# Altium integrated library con-thomas-betts.IntLib: 49 symbols (part 1 of 2)
Pins are listed as number, name and electrical type; pins without a type are passive.

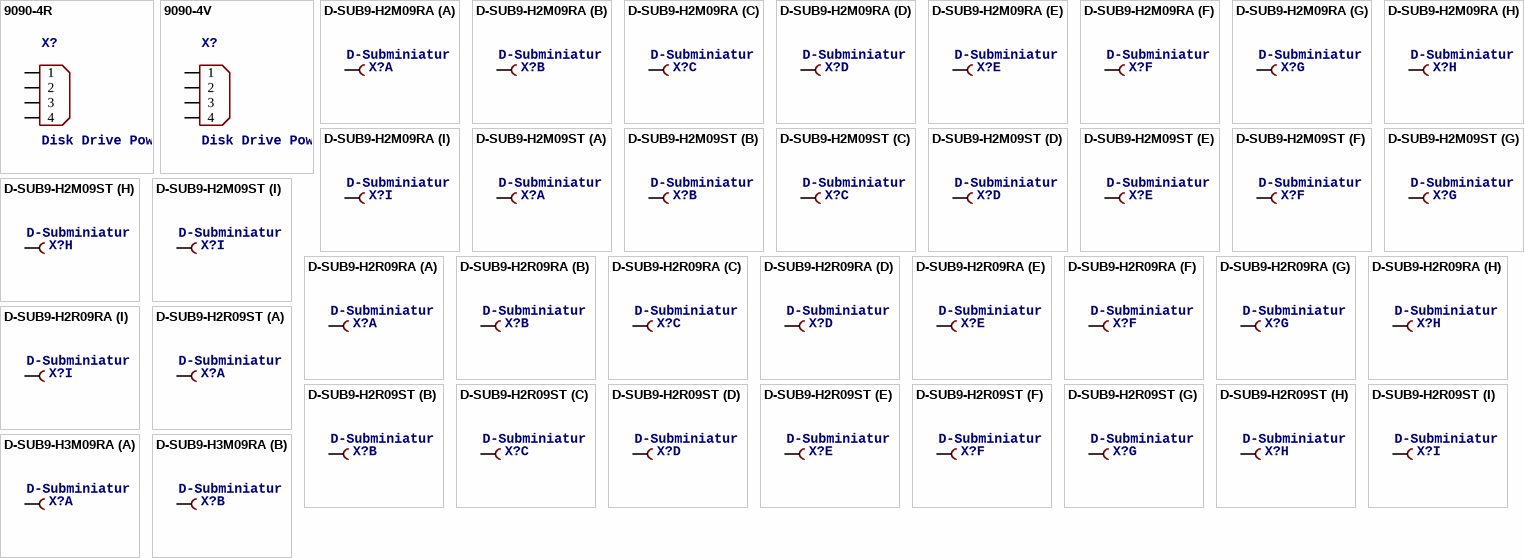
[diagram p0: symbols 9090-4R to D-SUB9-H3M09RA]

## 9090-4R
designator X?, comment Disk Drive Power four position   Source: Thomas & Betts Electronic Interconnects Eiropean Edition 1998
OC_FARNELL: unknown; OC_NEWARK: unknown
footprint 9090-4R
pins: 1, 2, 3, 4

## 9090-4V
designator X?, comment Disk Drive Power four position   Source: Thomas & Betts Electronic Interconnects Eiropean Edition 1998
OC_FARNELL: unknown; OC_NEWARK: unknown
footprint 9090-4V
pins: 1, 2, 3, 4

## D-SUB9-H2M09RA
designator X?, comment D-Subminiatur Connector   Source: Electronioc Interconnects European Edition 1998
OC_FARNELL: unknown; OC_NEWARK: unknown
footprint H2M09RA
part A pins: 1 F
part B pins: 2 F
part C pins: 3 F
part D pins: 4 F
part E pins: 5 F
part F pins: 6 F
part G pins: 7 F
part H pins: 8 F
part I pins: 9 F

## D-SUB9-H2M09ST
designator X?, comment D-Subminiatur Connector   Source: Electronioc Interconnects European Edition 1998
OC_FARNELL: unknown; OC_NEWARK: unknown
footprint H2M09ST
part A pins: 1 F
part B pins: 2 F
part C pins: 3 F
part D pins: 4 F
part E pins: 5 F
part F pins: 6 F
part G pins: 7 F
part H pins: 8 F
part I pins: 9 F

## D-SUB9-H2R09RA
designator X?, comment D-Subminiatur Connector   Source: Electronioc Interconnects European Edition 1998
OC_FARNELL: unknown; OC_NEWARK: unknown
footprint H2R09RA
part A pins: 1 F
part B pins: 2 F
part C pins: 3 F
part D pins: 4 F
part E pins: 5 F
part F pins: 6 F
part G pins: 7 F
part H pins: 8 F
part I pins: 9 F

## D-SUB9-H2R09ST
designator X?, comment D-Subminiatur Connector   Source: Electronioc Interconnects European Edition 1998
OC_FARNELL: unknown; OC_NEWARK: unknown
footprint H2R09ST
part A pins: 1 F
part B pins: 2 F
part C pins: 3 F
part D pins: 4 F
part E pins: 5 F
part F pins: 6 F
part G pins: 7 F
part H pins: 8 F
part I pins: 9 F

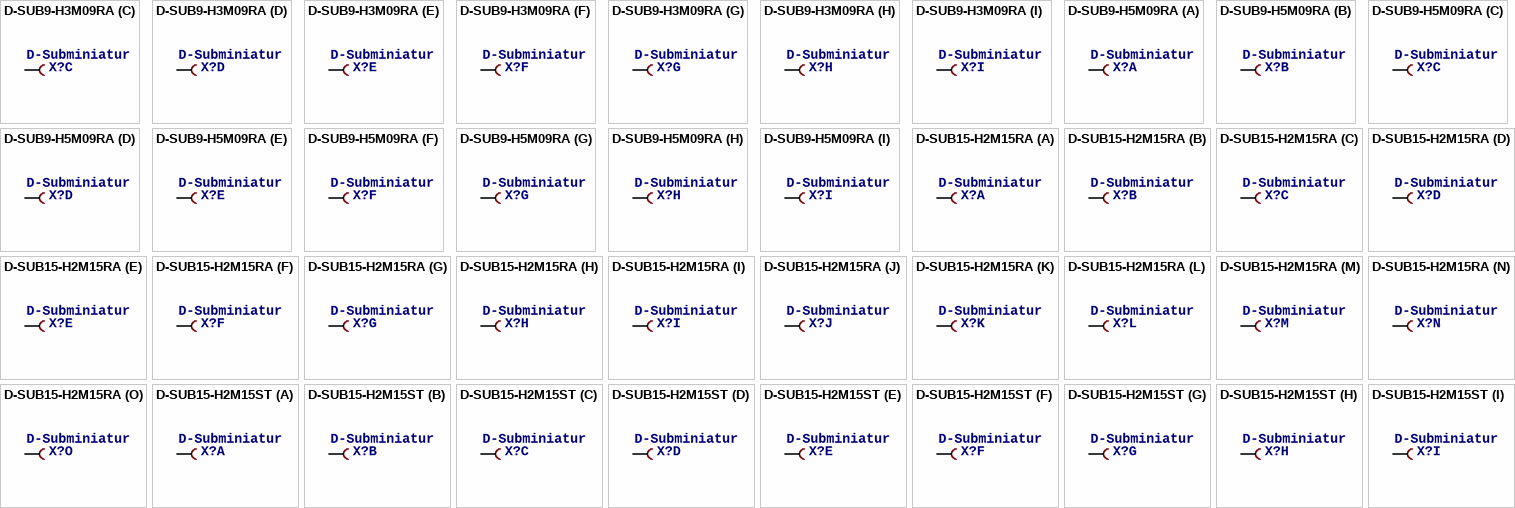
[diagram p1: symbols D-SUB9-H3M09RA to D-SUB15-H2M15ST]

## D-SUB9-H3M09RA
designator X?, comment D-Subminiatur Connector   Source: Electronioc Interconnects European Edition 1998
OC_FARNELL: unknown; OC_NEWARK: unknown
footprint H3M09RA
part A pins: 1 F
part B pins: 2 F
part C pins: 3 F
part D pins: 4 F
part E pins: 5 F
part F pins: 6 F
part G pins: 7 F
part H pins: 8 F
part I pins: 9 F

## D-SUB9-H5M09RA
designator X?, comment D-Subminiatur Connector   Source: Electronioc Interconnects European Edition 1998
OC_FARNELL: unknown; OC_NEWARK: unknown
footprint H5M09RA
part A pins: 1 F
part B pins: 2 F
part C pins: 3 F
part D pins: 4 F
part E pins: 5 F
part F pins: 6 F
part G pins: 7 F
part H pins: 8 F
part I pins: 9 F

## D-SUB15-H2M15RA
designator X?, comment D-Subminiatur Connector   Source: Electronioc Interconnects European Edition 1998
MPN: H2M15RA29B; OC_FARNELL: unknown; OC_NEWARK: 93F8395
footprint H2M15RA
part A pins: 1 F
part B pins: 2 F
part C pins: 3 F
part D pins: 4 F
part E pins: 5 F
part F pins: 6 F
part G pins: 7 F
part H pins: 8 F
part I pins: 9 F
part J pins: 10 F
part K pins: 11 F
part L pins: 12 F
part M pins: 13 F
part N pins: 14 F
part O pins: 15 F

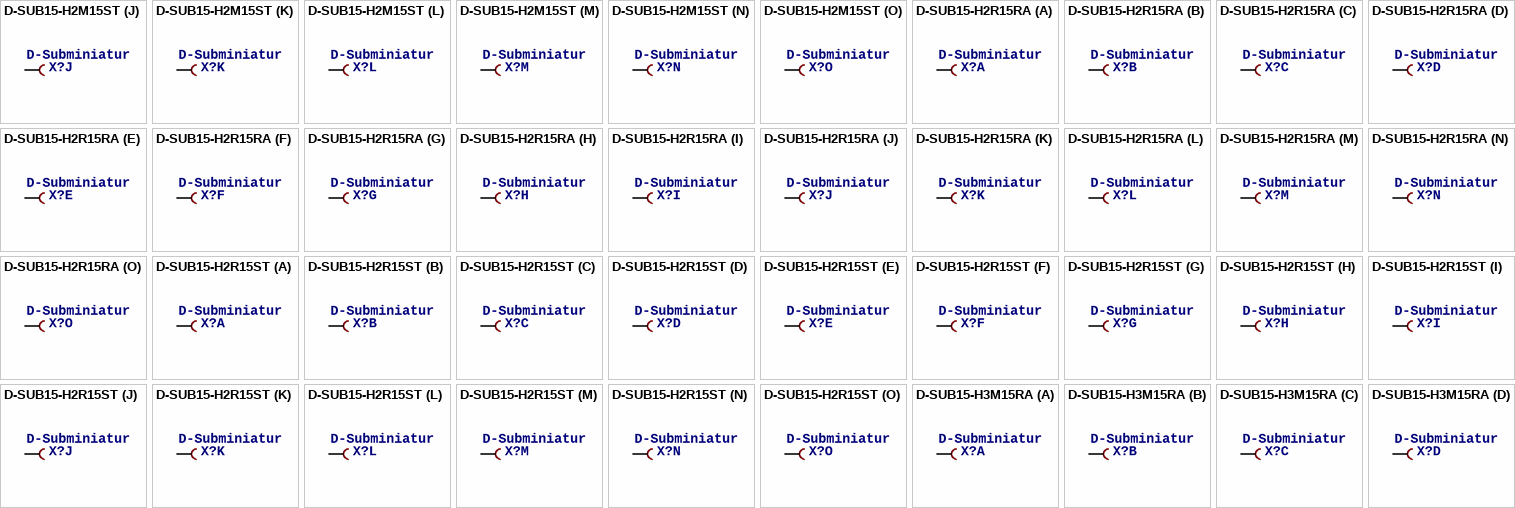
[diagram p2: symbols D-SUB15-H2M15ST to D-SUB15-H3M15RA]

## D-SUB15-H2M15ST
designator X?, comment D-Subminiatur Connector   Source: Electronioc Interconnects European Edition 1998
OC_FARNELL: unknown; OC_NEWARK: unknown
footprint H2M15ST
part A pins: 1 F
part B pins: 2 F
part C pins: 3 F
part D pins: 4 F
part E pins: 5 F
part F pins: 6 F
part G pins: 7 F
part H pins: 8 F
part I pins: 9 F
part J pins: 10 F
part K pins: 11 F
part L pins: 12 F
part M pins: 13 F
part N pins: 14 F
part O pins: 15 F

## D-SUB15-H2R15RA
designator X?, comment D-Subminiatur Connector   Source: Electronioc Interconnects European Edition 1998
OC_FARNELL: unknown; OC_NEWARK: unknown
footprint H2R15RA
part A pins: 1 F
part B pins: 2 F
part C pins: 3 F
part D pins: 4 F
part E pins: 5 F
part F pins: 6 F
part G pins: 7 F
part H pins: 8 F
part I pins: 9 F
part J pins: 10 F
part K pins: 11 F
part L pins: 12 F
part M pins: 13 F
part N pins: 14 F
part O pins: 15 F

## D-SUB15-H2R15ST
designator X?, comment D-Subminiatur Connector   Source: Electronioc Interconnects European Edition 1998
OC_FARNELL: unknown; OC_NEWARK: unknown
footprint H2R15ST
part A pins: 1 F
part B pins: 2 F
part C pins: 3 F
part D pins: 4 F
part E pins: 5 F
part F pins: 6 F
part G pins: 7 F
part H pins: 8 F
part I pins: 9 F
part J pins: 10 F
part K pins: 11 F
part L pins: 12 F
part M pins: 13 F
part N pins: 14 F
part O pins: 15 F

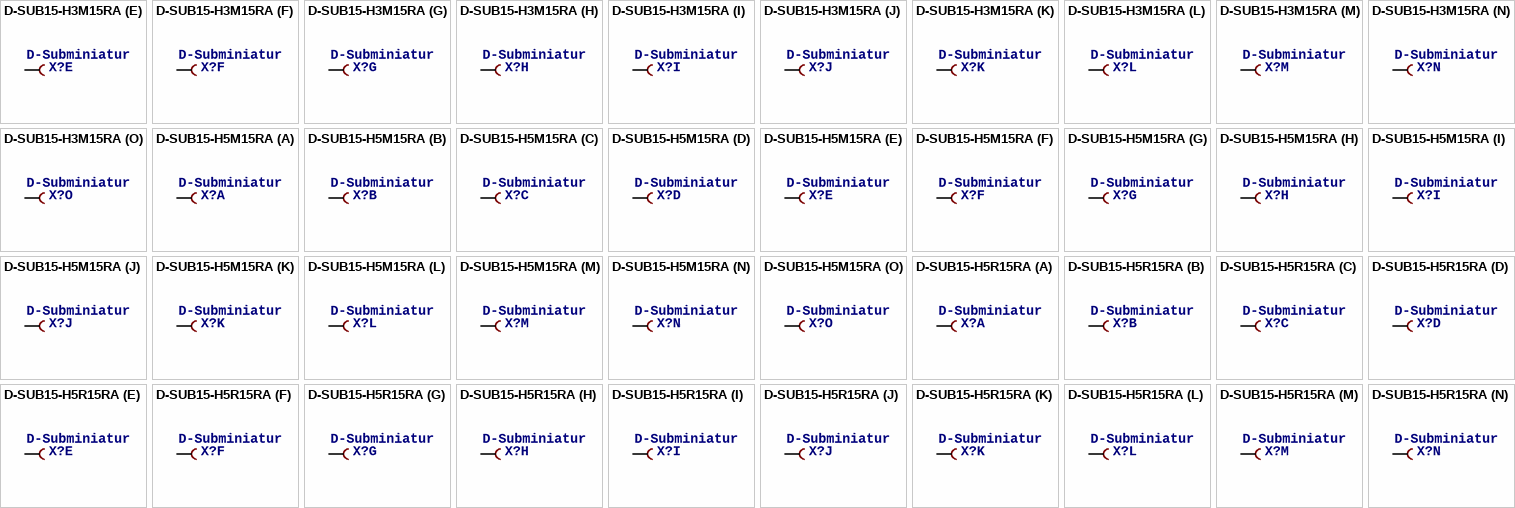
[diagram p3: symbols D-SUB15-H3M15RA to D-SUB15-H5R15RA]

## D-SUB15-H3M15RA
designator X?, comment D-Subminiatur Connector   Source: Electronioc Interconnects European Edition 1998
OC_FARNELL: unknown; OC_NEWARK: unknown
footprint H3M15RA
part A pins: 1 F
part B pins: 2 F
part C pins: 3 F
part D pins: 4 F
part E pins: 5 F
part F pins: 6 F
part G pins: 7 F
part H pins: 8 F
part I pins: 9 F
part J pins: 10 F
part K pins: 11 F
part L pins: 12 F
part M pins: 13 F
part N pins: 14 F
part O pins: 15 F

## D-SUB15-H5M15RA
designator X?, comment D-Subminiatur Connector   Source: Electronioc Interconnects European Edition 1998
MPN: H5M15RA29C; MF: TYCO ELECTRONICS; OC_FARNELL: unknown; OC_NEWARK: 93F8315
footprint H5M15RA
part A pins: 1 F
part B pins: 2 F
part C pins: 3 F
part D pins: 4 F
part E pins: 5 F
part F pins: 6 F
part G pins: 7 F
part H pins: 8 F
part I pins: 9 F
part J pins: 10 F
part K pins: 11 F
part L pins: 12 F
part M pins: 13 F
part N pins: 14 F
part O pins: 15 F

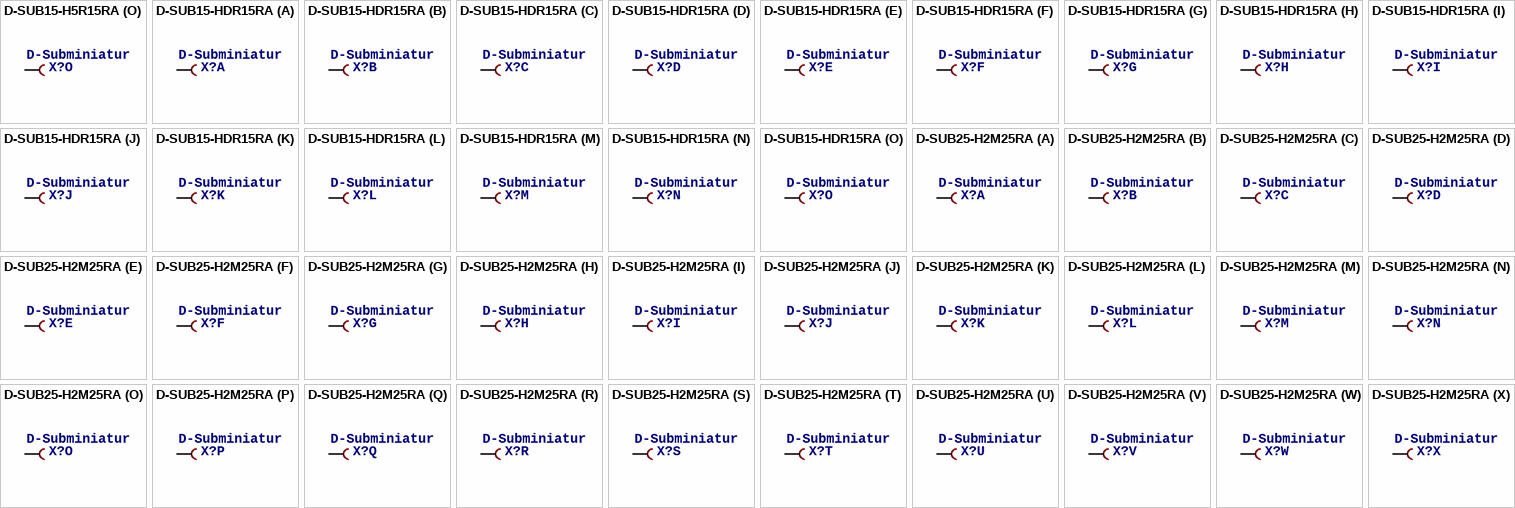
[diagram p4: symbols D-SUB15-H5R15RA to D-SUB25-H2M25RA]

## D-SUB15-H5R15RA
designator X?, comment D-Subminiatur Connector   Source: Electronioc Interconnects European Edition 1998
MPN: H5R15RA29B; MF: TYCO ELECTRONICS; OC_FARNELL: unknown; OC_NEWARK: 93F8335
footprint H5R15RA
part A pins: 1 F
part B pins: 2 F
part C pins: 3 F
part D pins: 4 F
part E pins: 5 F
part F pins: 6 F
part G pins: 7 F
part H pins: 8 F
part I pins: 9 F
part J pins: 10 F
part K pins: 11 F
part L pins: 12 F
part M pins: 13 F
part N pins: 14 F
part O pins: 15 F

## D-SUB15-HDR15RA
designator X?, comment D-Subminiatur Connector   Source: Electronioc Interconnects European Edition 1998
OC_FARNELL: unknown; OC_NEWARK: unknown
footprint HDR15RA
part A pins: 1 F
part B pins: 2 F
part C pins: 3 F
part D pins: 4 F
part E pins: 5 F
part F pins: 6 F
part G pins: 7 F
part H pins: 8 F
part I pins: 9 F
part J pins: 10 F
part K pins: 11 F
part L pins: 12 F
part M pins: 13 F
part N pins: 14 F
part O pins: 15 F

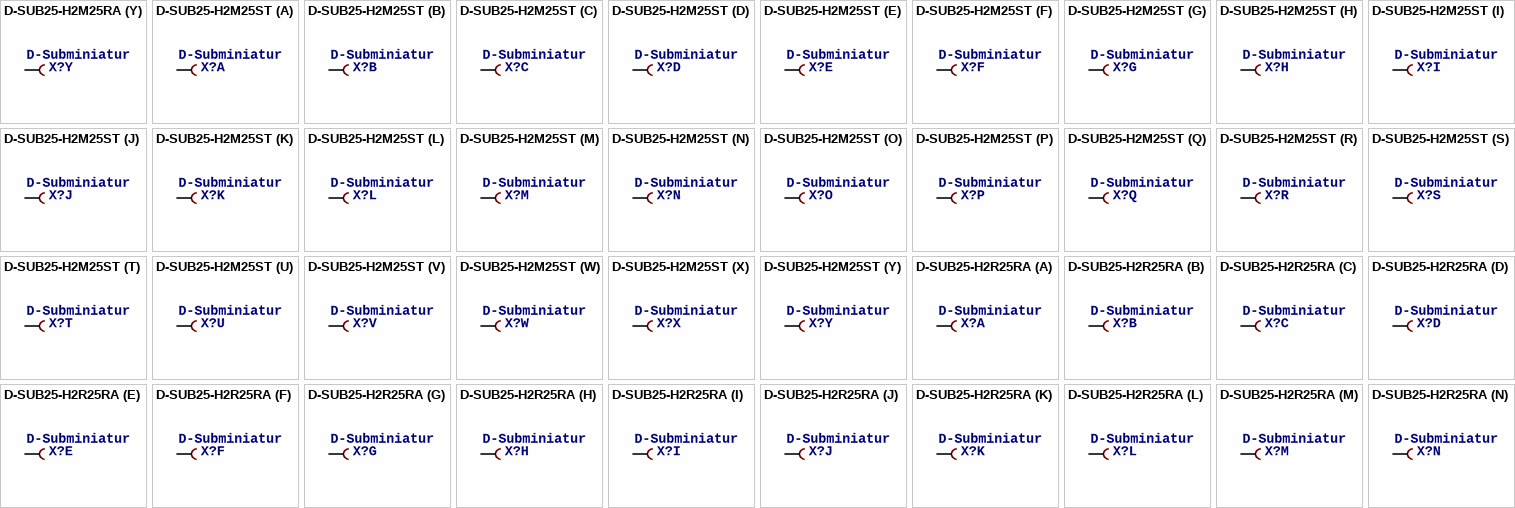
[diagram p5: symbols D-SUB25-H2M25RA to D-SUB25-H2R25RA]

## D-SUB25-H2M25RA
designator X?, comment D-Subminiatur Connector   Source: Electronioc Interconnects European Edition 1998
OC_FARNELL: unknown; OC_NEWARK: unknown
footprint H2M25RA
part A pins: 1 F
part B pins: 2 F
part C pins: 3 F
part D pins: 4 F
part E pins: 5 F
part F pins: 6 F
part G pins: 7 F
part H pins: 8 F
part I pins: 9 F
part J pins: 10 F
part K pins: 11 F
part L pins: 12 F
part M pins: 13 F
part N pins: 14 F
part O pins: 15 F
part P pins: 16 F
part Q pins: 17 F
part R pins: 18 F
part S pins: 19 F
part T pins: 20 F
part U pins: 21 F
part V pins: 22 F
part W pins: 23 F
part X pins: 24 F
part Y pins: 25 F

## D-SUB25-H2M25ST
designator X?, comment D-Subminiatur Connector   Source: Electronioc Interconnects European Edition 1998
OC_FARNELL: unknown; OC_NEWARK: unknown
footprint H2M25ST
part A pins: 1 F
part B pins: 2 F
part C pins: 3 F
part D pins: 4 F
part E pins: 5 F
part F pins: 6 F
part G pins: 7 F
part H pins: 8 F
part I pins: 9 F
part J pins: 10 F
part K pins: 11 F
part L pins: 12 F
part M pins: 13 F
part N pins: 14 F
part O pins: 15 F
part P pins: 16 F
part Q pins: 17 F
part R pins: 18 F
part S pins: 19 F
part T pins: 20 F
part U pins: 21 F
part V pins: 22 F
part W pins: 23 F
part X pins: 24 F
part Y pins: 25 F

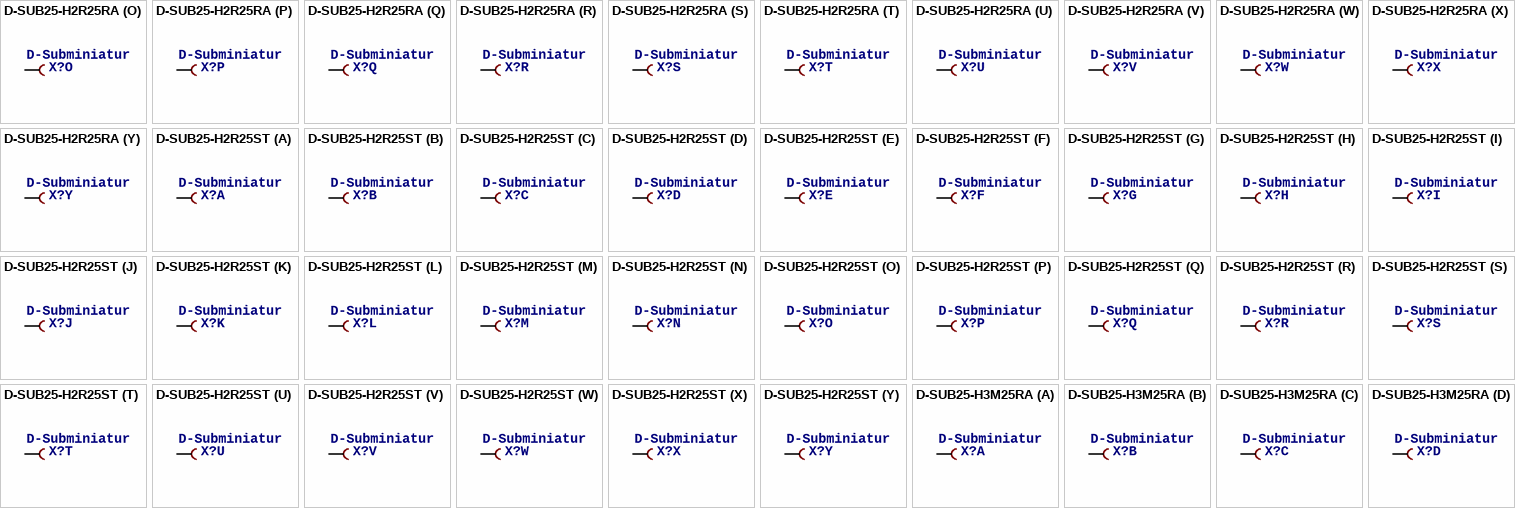
[diagram p6: symbols D-SUB25-H2R25RA to D-SUB25-H3M25RA]

## D-SUB25-H2R25RA
designator X?, comment D-Subminiatur Connector   Source: Electronioc Interconnects European Edition 1998
OC_FARNELL: unknown; OC_NEWARK: unknown
footprint H2R25RA
part A pins: 1 F
part B pins: 2 F
part C pins: 3 F
part D pins: 4 F
part E pins: 5 F
part F pins: 6 F
part G pins: 7 F
part H pins: 8 F
part I pins: 9 F
part J pins: 10 F
part K pins: 11 F
part L pins: 12 F
part M pins: 13 F
part N pins: 14 F
part O pins: 15 F
part P pins: 16 F
part Q pins: 17 F
part R pins: 18 F
part S pins: 19 F
part T pins: 20 F
part U pins: 21 F
part V pins: 22 F
part W pins: 23 F
part X pins: 24 F
part Y pins: 25 F

## D-SUB25-H2R25ST
designator X?, comment D-Subminiatur Connector   Source: Electronioc Interconnects European Edition 1998
MPN: H2R25ST29J; MF: TYCO ELECTRONICS; OC_FARNELL: unknown; OC_NEWARK: 16F4224
footprint H2R25ST
part A pins: 1 F
part B pins: 2 F
part C pins: 3 F
part D pins: 4 F
part E pins: 5 F
part F pins: 6 F
part G pins: 7 F
part H pins: 8 F
part I pins: 9 F
part J pins: 10 F
part K pins: 11 F
part L pins: 12 F
part M pins: 13 F
part N pins: 14 F
part O pins: 15 F
part P pins: 16 F
part Q pins: 17 F
part R pins: 18 F
part S pins: 19 F
part T pins: 20 F
part U pins: 21 F
part V pins: 22 F
part W pins: 23 F
part X pins: 24 F
part Y pins: 25 F

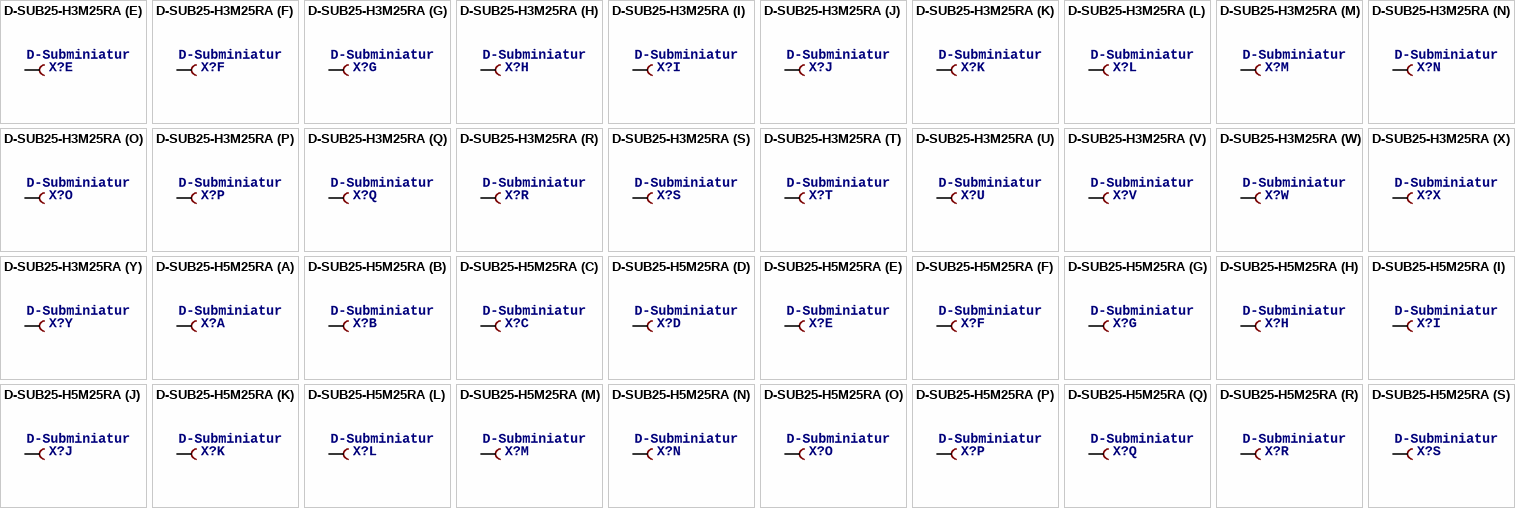
[diagram p7: symbols D-SUB25-H3M25RA to D-SUB25-H5M25RA]

## D-SUB25-H3M25RA
designator X?, comment D-Subminiatur Connector   Source: Electronioc Interconnects European Edition 1998
OC_FARNELL: unknown; OC_NEWARK: unknown
footprint H3M25RA
part A pins: 1 F
part B pins: 2 F
part C pins: 3 F
part D pins: 4 F
part E pins: 5 F
part F pins: 6 F
part G pins: 7 F
part H pins: 8 F
part I pins: 9 F
part J pins: 10 F
part K pins: 11 F
part L pins: 12 F
part M pins: 13 F
part N pins: 14 F
part O pins: 15 F
part P pins: 16 F
part Q pins: 17 F
part R pins: 18 F
part S pins: 19 F
part T pins: 20 F
part U pins: 21 F
part V pins: 22 F
part W pins: 23 F
part X pins: 24 F
part Y pins: 25 F

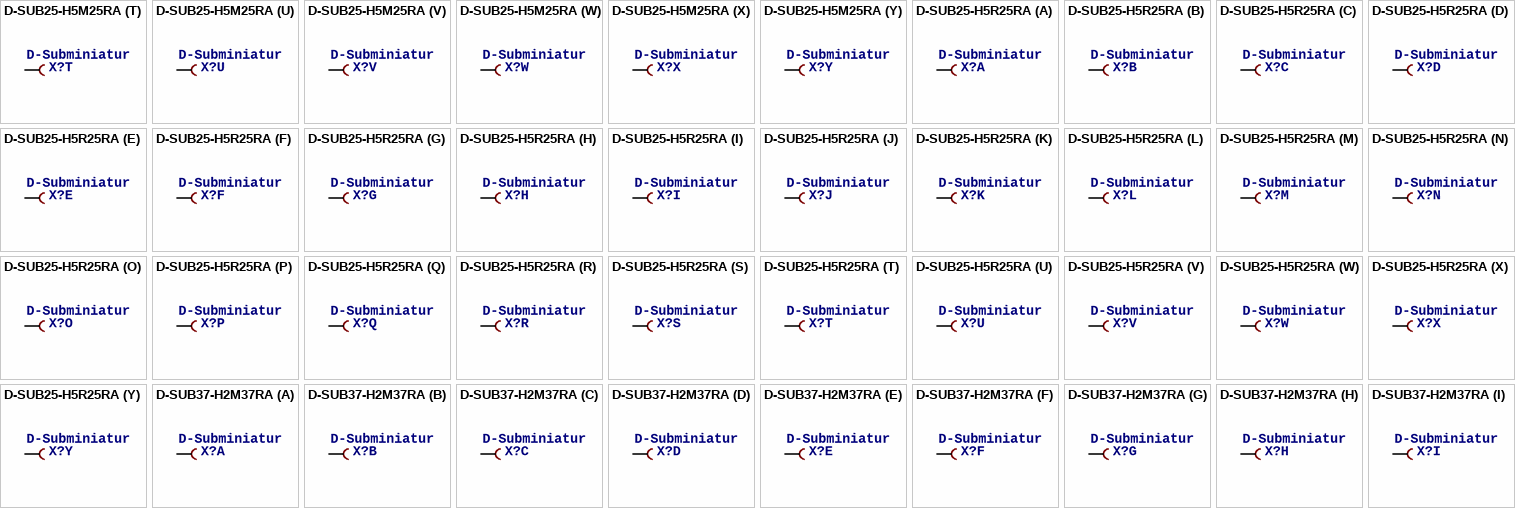
[diagram p8: symbols D-SUB25-H5M25RA to D-SUB37-H2M37RA]

## D-SUB25-H5M25RA
designator X?, comment D-Subminiatur Connector   Source: Electronioc Interconnects European Edition 1998
MPN: H5M25RA29CS; OC_FARNELL: unknown; OC_NEWARK: 93F8324
footprint H5M25RA
part A pins: 1 F
part B pins: 2 F
part C pins: 3 F
part D pins: 4 F
part E pins: 5 F
part F pins: 6 F
part G pins: 7 F
part H pins: 8 F
part I pins: 9 F
part J pins: 10 F
part K pins: 11 F
part L pins: 12 F
part M pins: 13 F
part N pins: 14 F
part O pins: 15 F
part P pins: 16 F
part Q pins: 17 F
part R pins: 18 F
part S pins: 19 F
part T pins: 20 F
part U pins: 21 F
part V pins: 22 F
part W pins: 23 F
part X pins: 24 F
part Y pins: 25 F

## D-SUB25-H5R25RA
designator X?, comment D-Subminiatur Connector   Source: Electronioc Interconnects European Edition 1998
MPN: H5R25RA29CS; OC_FARNELL: unknown; OC_NEWARK: 93F8340
footprint H5R25RA
part A pins: 1 F
part B pins: 2 F
part C pins: 3 F
part D pins: 4 F
part E pins: 5 F
part F pins: 6 F
part G pins: 7 F
part H pins: 8 F
part I pins: 9 F
part J pins: 10 F
part K pins: 11 F
part L pins: 12 F
part M pins: 13 F
part N pins: 14 F
part O pins: 15 F
part P pins: 16 F
part Q pins: 17 F
part R pins: 18 F
part S pins: 19 F
part T pins: 20 F
part U pins: 21 F
part V pins: 22 F
part W pins: 23 F
part X pins: 24 F
part Y pins: 25 F

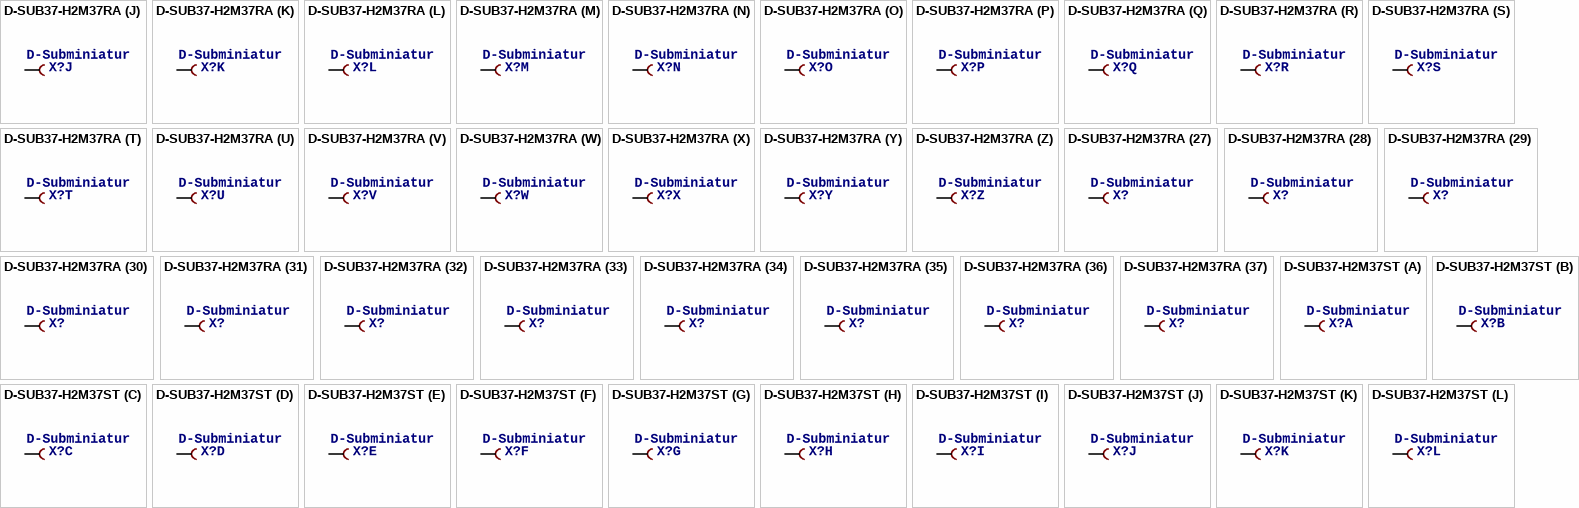
[diagram p9: symbols D-SUB37-H2M37RA to D-SUB37-H2M37ST]

## D-SUB37-H2M37RA
designator X?, comment D-Subminiatur Connector   Source: Electronioc Interconnects European Edition 1998
OC_FARNELL: unknown; OC_NEWARK: unknown
footprint H2M37RA
part A pins: 1 F
part B pins: 2 F
part C pins: 3 F
part D pins: 4 F
part E pins: 5 F
part F pins: 6 F
part G pins: 7 F
part H pins: 8 F
part I pins: 9 F
part J pins: 10 F
part K pins: 11 F
part L pins: 12 F
part M pins: 13 F
part N pins: 14 F
part O pins: 15 F
part P pins: 16 F
part Q pins: 17 F
part R pins: 18 F
part S pins: 19 F
part T pins: 20 F
part U pins: 21 F
part V pins: 22 F
part W pins: 23 F
part X pins: 24 F
part Y pins: 25 F
part Z pins: 26 F
part 27 pins: 27 F
part 28 pins: 28 F
part 29 pins: 29 F
part 30 pins: 30 F
part 31 pins: 31 F
part 32 pins: 32 F
part 33 pins: 33 F
part 34 pins: 34 F
part 35 pins: 35 F
part 36 pins: 36 F
part 37 pins: 37 F

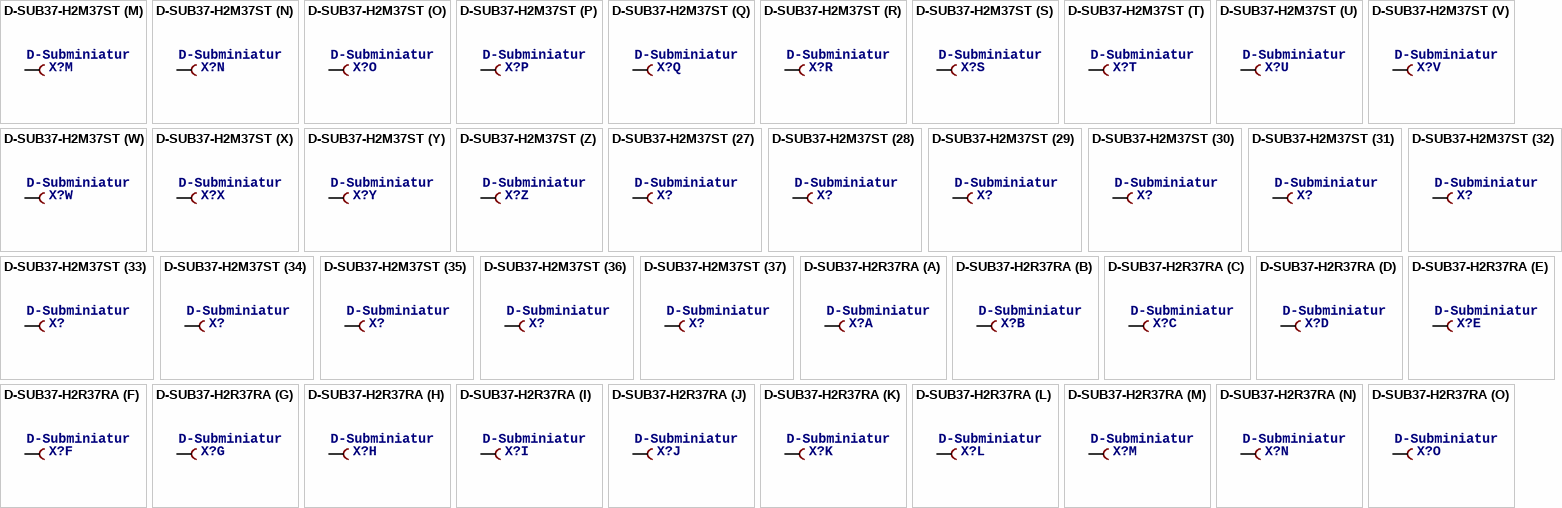
[diagram p10: symbols D-SUB37-H2M37ST to D-SUB37-H2R37RA]

## D-SUB37-H2M37ST
designator X?, comment D-Subminiatur Connector   Source: Electronioc Interconnects European Edition 1998
OC_FARNELL: unknown; OC_NEWARK: unknown
footprint H2M37ST
part A pins: 1 F
part B pins: 2 F
part C pins: 3 F
part D pins: 4 F
part E pins: 5 F
part F pins: 6 F
part G pins: 7 F
part H pins: 8 F
part I pins: 9 F
part J pins: 10 F
part K pins: 11 F
part L pins: 12 F
part M pins: 13 F
part N pins: 14 F
part O pins: 15 F
part P pins: 16 F
part Q pins: 17 F
part R pins: 18 F
part S pins: 19 F
part T pins: 20 F
part U pins: 21 F
part V pins: 22 F
part W pins: 23 F
part X pins: 24 F
part Y pins: 25 F
part Z pins: 26 F
part 27 pins: 27 F
part 28 pins: 28 F
part 29 pins: 29 F
part 30 pins: 30 F
part 31 pins: 31 F
part 32 pins: 32 F
part 33 pins: 33 F
part 34 pins: 34 F
part 35 pins: 35 F
part 36 pins: 36 F
part 37 pins: 37 F

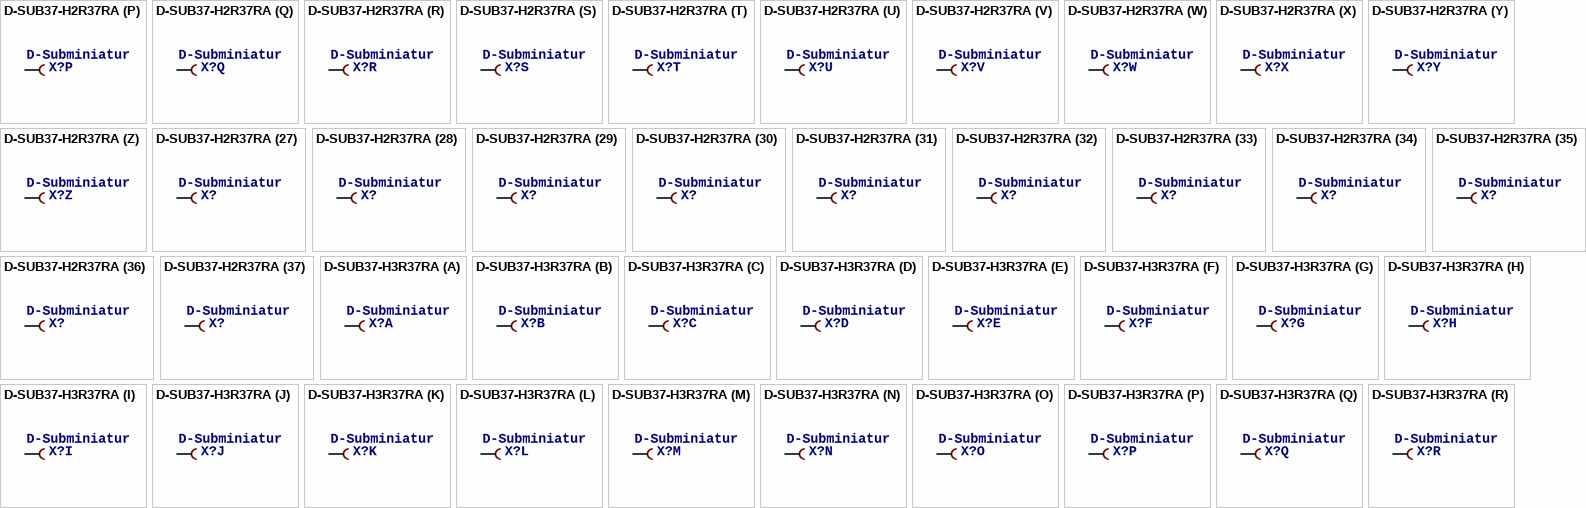
[diagram p11: symbols D-SUB37-H2R37RA to D-SUB37-H3R37RA]

## D-SUB37-H2R37RA
designator X?, comment D-Subminiatur Connector   Source: Electronioc Interconnects European Edition 1998
OC_FARNELL: unknown; OC_NEWARK: unknown
footprint H2R37RA
part A pins: 1 F
part B pins: 2 F
part C pins: 3 F
part D pins: 4 F
part E pins: 5 F
part F pins: 6 F
part G pins: 7 F
part H pins: 8 F
part I pins: 9 F
part J pins: 10 F
part K pins: 11 F
part L pins: 12 F
part M pins: 13 F
part N pins: 14 F
part O pins: 15 F
part P pins: 16 F
part Q pins: 17 F
part R pins: 18 F
part S pins: 19 F
part T pins: 20 F
part U pins: 21 F
part V pins: 22 F
part W pins: 23 F
part X pins: 24 F
part Y pins: 25 F
part Z pins: 26 F
part 27 pins: 27 F
part 28 pins: 28 F
part 29 pins: 29 F
part 30 pins: 30 F
part 31 pins: 31 F
part 32 pins: 32 F
part 33 pins: 33 F
part 34 pins: 34 F
part 35 pins: 35 F
part 36 pins: 36 F
part 37 pins: 37 F

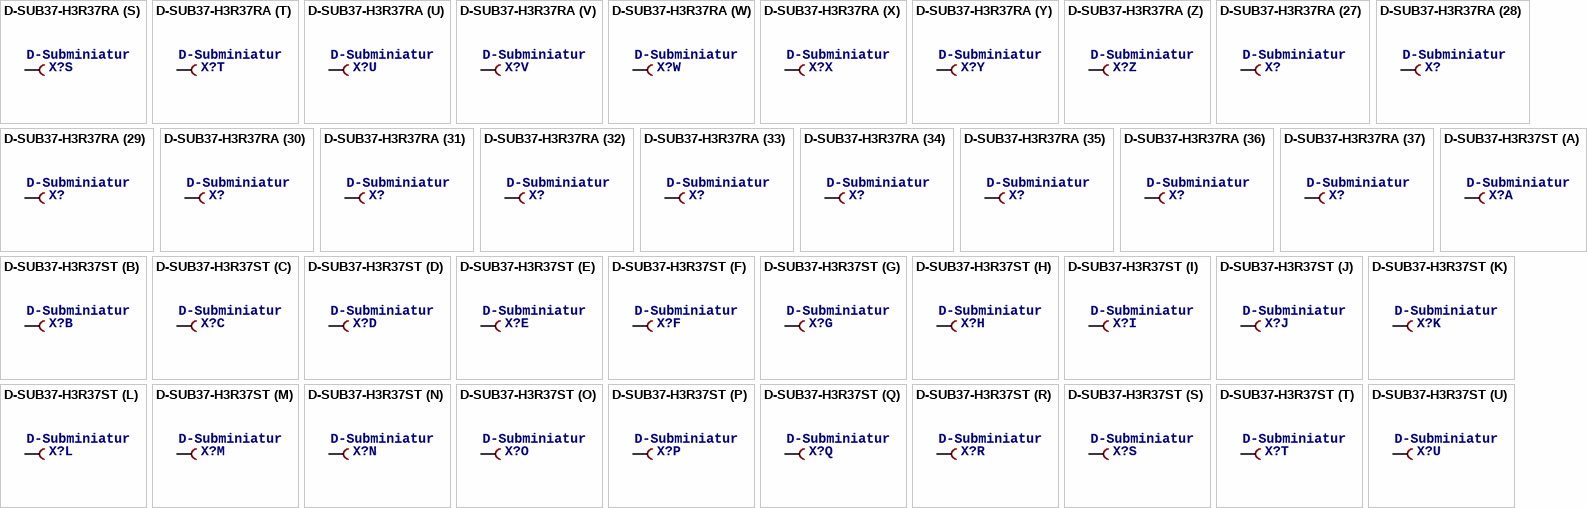
[diagram p12: symbols D-SUB37-H3R37RA to D-SUB37-H3R37ST]

## D-SUB37-H3R37RA
designator X?, comment D-Subminiatur Connector   Source: Electronioc Interconnects European Edition 1998
OC_FARNELL: unknown; OC_NEWARK: unknown
footprint H3R37RA
part A pins: 1 F
part B pins: 2 F
part C pins: 3 F
part D pins: 4 F
part E pins: 5 F
part F pins: 6 F
part G pins: 7 F
part H pins: 8 F
part I pins: 9 F
part J pins: 10 F
part K pins: 11 F
part L pins: 12 F
part M pins: 13 F
part N pins: 14 F
part O pins: 15 F
part P pins: 16 F
part Q pins: 17 F
part R pins: 18 F
part S pins: 19 F
part T pins: 20 F
part U pins: 21 F
part V pins: 22 F
part W pins: 23 F
part X pins: 24 F
part Y pins: 25 F
part Z pins: 26 F
part 27 pins: 27 F
part 28 pins: 28 F
part 29 pins: 29 F
part 30 pins: 30 F
part 31 pins: 31 F
part 32 pins: 32 F
part 33 pins: 33 F
part 34 pins: 34 F
part 35 pins: 35 F
part 36 pins: 36 F
part 37 pins: 37 F

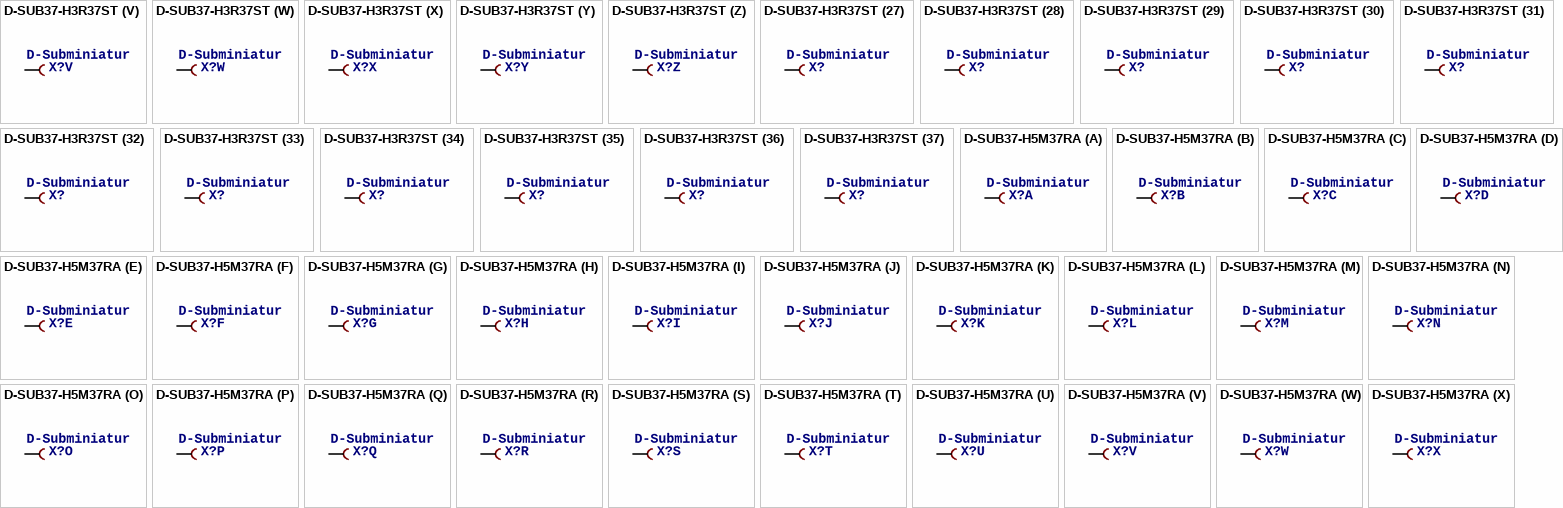
[diagram p13: symbols D-SUB37-H3R37ST to D-SUB37-H5M37RA]

## D-SUB37-H3R37ST
designator X?, comment D-Subminiatur Connector   Source: Electronioc Interconnects European Edition 1998
OC_FARNELL: unknown; OC_NEWARK: unknown
footprint H2R37ST
part A pins: 1 F
part B pins: 2 F
part C pins: 3 F
part D pins: 4 F
part E pins: 5 F
part F pins: 6 F
part G pins: 7 F
part H pins: 8 F
part I pins: 9 F
part J pins: 10 F
part K pins: 11 F
part L pins: 12 F
part M pins: 13 F
part N pins: 14 F
part O pins: 15 F
part P pins: 16 F
part Q pins: 17 F
part R pins: 18 F
part S pins: 19 F
part T pins: 20 F
part U pins: 21 F
part V pins: 22 F
part W pins: 23 F
part X pins: 24 F
part Y pins: 25 F
part Z pins: 26 F
part 27 pins: 27 F
part 28 pins: 28 F
part 29 pins: 29 F
part 30 pins: 30 F
part 31 pins: 31 F
part 32 pins: 32 F
part 33 pins: 33 F
part 34 pins: 34 F
part 35 pins: 35 F
part 36 pins: 36 F
part 37 pins: 37 F

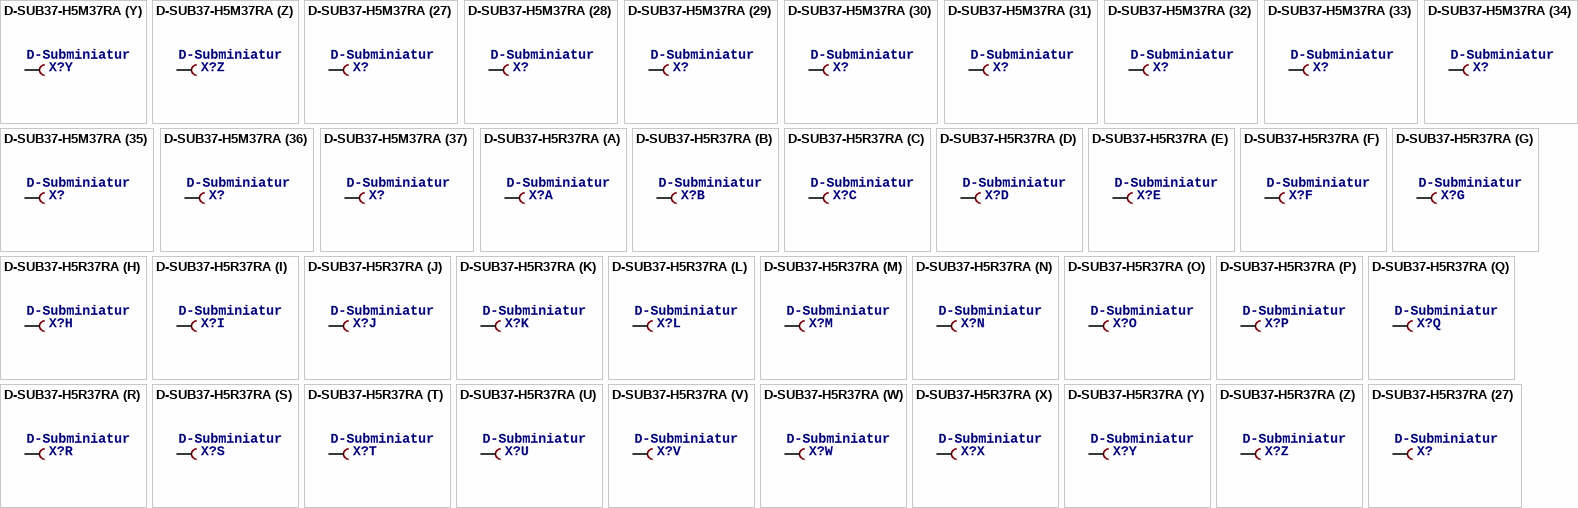
[diagram p14: symbols D-SUB37-H5M37RA to D-SUB37-H5R37RA]

## D-SUB37-H5M37RA
designator X?, comment D-Subminiatur Connector   Source: Electronioc Interconnects European Edition 1998
MPN: H5M37RA29CS; OC_FARNELL: unknown; OC_NEWARK: 93F8325
footprint H5M37RA
part A pins: 1 F
part B pins: 2 F
part C pins: 3 F
part D pins: 4 F
part E pins: 5 F
part F pins: 6 F
part G pins: 7 F
part H pins: 8 F
part I pins: 9 F
part J pins: 10 F
part K pins: 11 F
part L pins: 12 F
part M pins: 13 F
part N pins: 14 F
part O pins: 15 F
part P pins: 16 F
part Q pins: 17 F
part R pins: 18 F
part S pins: 19 F
part T pins: 20 F
part U pins: 21 F
part V pins: 22 F
part W pins: 23 F
part X pins: 24 F
part Y pins: 25 F
part Z pins: 26 F
part 27 pins: 27 F
part 28 pins: 28 F
part 29 pins: 29 F
part 30 pins: 30 F
part 31 pins: 31 F
part 32 pins: 32 F
part 33 pins: 33 F
part 34 pins: 34 F
part 35 pins: 35 F
part 36 pins: 36 F
part 37 pins: 37 F

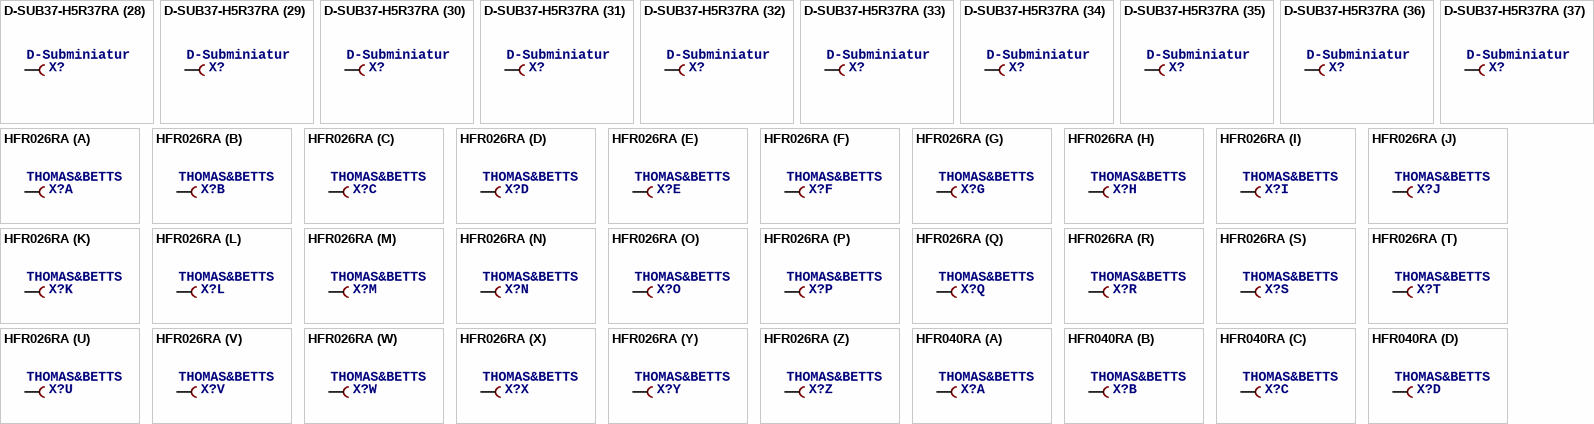
[diagram p15: symbols D-SUB37-H5R37RA to HFR040RA]

## D-SUB37-H5R37RA
designator X?, comment D-Subminiatur Connector   Source: Electronioc Interconnects European Edition 1998
OC_FARNELL: unknown; OC_NEWARK: unknown
footprint H5R37RA
part A pins: 1 F
part B pins: 2 F
part C pins: 3 F
part D pins: 4 F
part E pins: 5 F
part F pins: 6 F
part G pins: 7 F
part H pins: 8 F
part I pins: 9 F
part J pins: 10 F
part K pins: 11 F
part L pins: 12 F
part M pins: 13 F
part N pins: 14 F
part O pins: 15 F
part P pins: 16 F
part Q pins: 17 F
part R pins: 18 F
part S pins: 19 F
part T pins: 20 F
part U pins: 21 F
part V pins: 22 F
part W pins: 23 F
part X pins: 24 F
part Y pins: 25 F
part Z pins: 26 F
part 27 pins: 27 F
part 28 pins: 28 F
part 29 pins: 29 F
part 30 pins: 30 F
part 31 pins: 31 F
part 32 pins: 32 F
part 33 pins: 33 F
part 34 pins: 34 F
part 35 pins: 35 F
part 36 pins: 36 F
part 37 pins: 37 F

## HFR026RA
designator X?, comment THOMAS&BETTS
OC_FARNELL: unknown; OC_NEWARK: unknown
footprint HFR026RA
part A pins: 2 F
part B pins: 3 F
part C pins: 4 F
part D pins: 5 F
part E pins: 6 F
part F pins: 7 F
part G pins: 8 F
part H pins: 9 F
part I pins: 10 F
part J pins: 11 F
part K pins: 12 F
part L pins: 13 F
part M pins: 14 F
part N pins: 15 F
part O pins: 16 F
part P pins: 17 F
part Q pins: 18 F
part R pins: 19 F
part S pins: 20 F
part T pins: 21 F
part U pins: 22 F
part V pins: 23 F
part W pins: 24 F
part X pins: 25 F
part Y pins: 26 F
part Z pins: 1 F

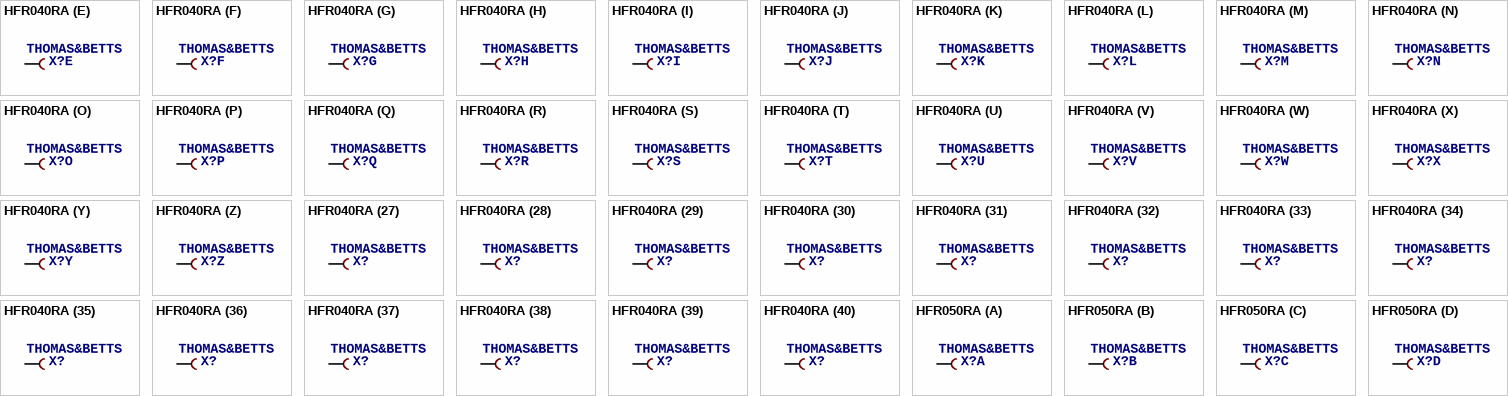
[diagram p16: symbols HFR040RA to HFR050RA]

## HFR040RA
designator X?, comment THOMAS&BETTS
OC_FARNELL: unknown; OC_NEWARK: unknown
footprint HFR040RA
part A pins: 1 F
part B pins: 2 F
part C pins: 3 F
part D pins: 4 F
part E pins: 5 F
part F pins: 6 F
part G pins: 7 F
part H pins: 8 F
part I pins: 9 F
part J pins: 10 F
part K pins: 11 F
part L pins: 12 F
part M pins: 13 F
part N pins: 14 F
part O pins: 15 F
part P pins: 16 F
part Q pins: 17 F
part R pins: 18 F
part S pins: 19 F
part T pins: 20 F
part U pins: 21 F
part V pins: 22 F
part W pins: 23 F
part X pins: 24 F
part Y pins: 25 F
part Z pins: 26 F
part 27 pins: 27 F
part 28 pins: 28 F
part 29 pins: 29 F
part 30 pins: 30 F
part 31 pins: 31 F
part 32 pins: 32 F
part 33 pins: 33 F
part 34 pins: 34 F
part 35 pins: 35 F
part 36 pins: 36 F
part 37 pins: 37 F
part 38 pins: 38 F
part 39 pins: 39 F
part 40 pins: 40 F

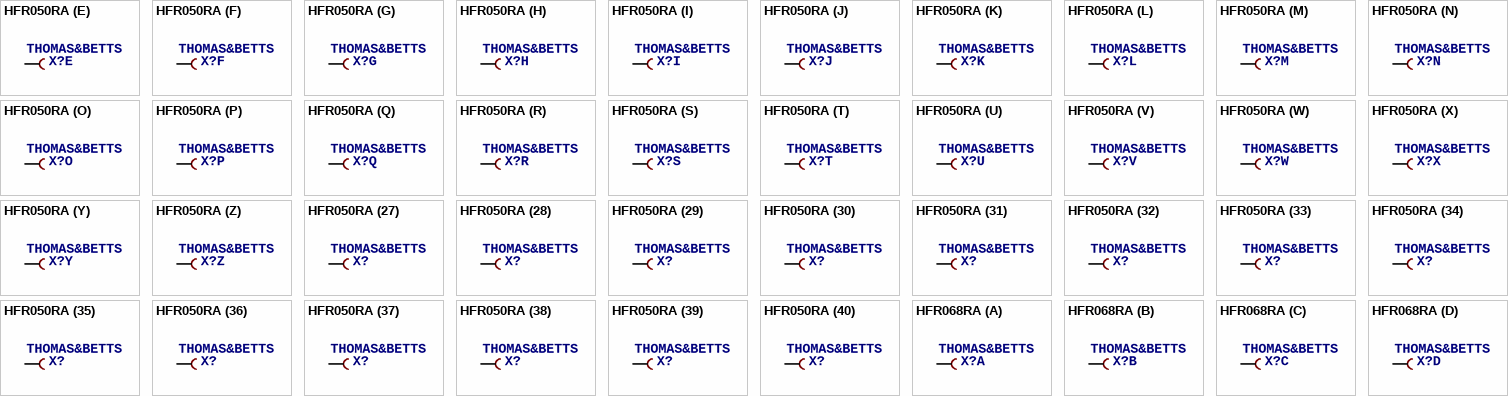
[diagram p17: symbols HFR050RA to HFR068RA]

## HFR050RA
designator X?, comment THOMAS&BETTS
OC_FARNELL: unknown; OC_NEWARK: unknown
footprint HFR050RA
part A pins: 2 F
part B pins: 3 F
part C pins: 4 F
part D pins: 5 F
part E pins: 6 F
part F pins: 7 F
part G pins: 8 F
part H pins: 9 F
part I pins: 10 F
part J pins: 11 F
part K pins: 12 F
part L pins: 13 F
part M pins: 14 F
part N pins: 15 F
part O pins: 16 F
part P pins: 17 F
part Q pins: 18 F
part R pins: 19 F
part S pins: 20 F
part T pins: 21 F
part U pins: 22 F
part V pins: 23 F
part W pins: 24 F
part X pins: 25 F
part Y pins: 27 F
part Z pins: 28 F
part 27 pins: 29 F
part 28 pins: 30 F
part 29 pins: 31 F
part 30 pins: 32 F
part 31 pins: 33 F
part 32 pins: 34 F
part 33 pins: 35 F
part 34 pins: 36 F
part 35 pins: 37 F
part 36 pins: 38 F
part 37 pins: 39 F
part 38 pins: 40 F
part 39 pins: 41 F
part 40 pins: 42 F
part 41 pins: 43 F
part 42 pins: 44 F
part 43 pins: 45 F
part 44 pins: 46 F
part 45 pins: 47 F
part 46 pins: 48 F
part 47 pins: 49 F
part 48 pins: 50 F
part 49 pins: 1 F
part 50 pins: 26 F

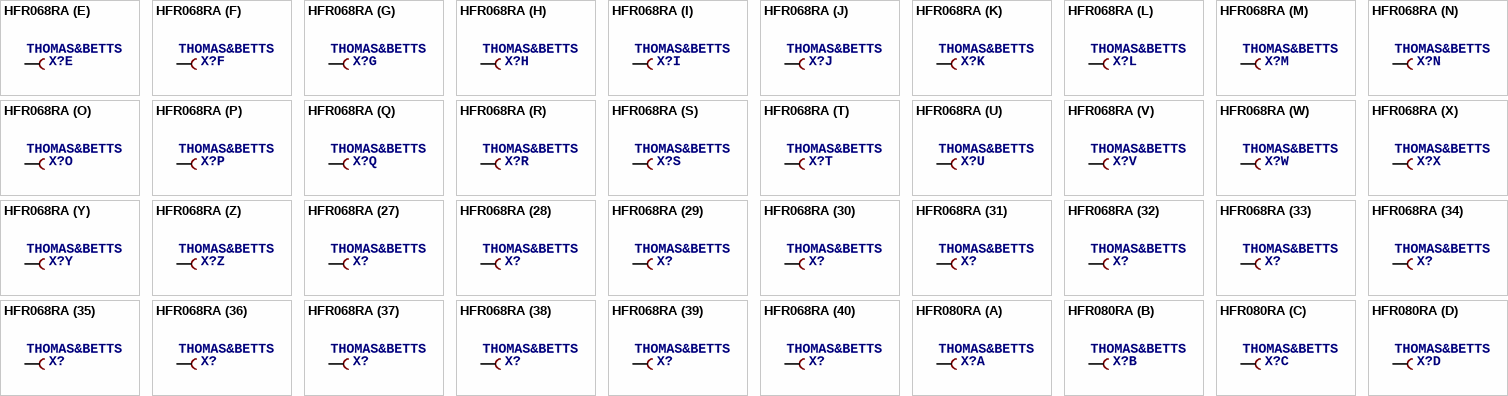
[diagram p18: symbols HFR068RA to HFR080RA]

## HFR068RA
designator X?, comment THOMAS&BETTS
OC_FARNELL: unknown; OC_NEWARK: unknown
footprint HFR068RA
part A pins: 1 F
part B pins: 2 F
part C pins: 3 F
part D pins: 4 F
part E pins: 5 F
part F pins: 6 F
part G pins: 7 F
part H pins: 8 F
part I pins: 9 F
part J pins: 10 F
part K pins: 11 F
part L pins: 12 F
part M pins: 13 F
part N pins: 14 F
part O pins: 15 F
part P pins: 16 F
part Q pins: 17 F
part R pins: 18 F
part S pins: 19 F
part T pins: 20 F
part U pins: 21 F
part V pins: 22 F
part W pins: 23 F
part X pins: 24 F
part Y pins: 25 F
part Z pins: 26 F
part 27 pins: 27 F
part 28 pins: 28 F
part 29 pins: 29 F
part 30 pins: 30 F
part 31 pins: 31 F
part 32 pins: 32 F
part 33 pins: 33 F
part 34 pins: 34 F
part 35 pins: 36 F
part 36 pins: 37 F
part 37 pins: 38 F
part 38 pins: 39 F
part 39 pins: 40 F
part 40 pins: 41 F
part 41 pins: 42 F
part 42 pins: 43 F
part 43 pins: 44 F
part 44 pins: 45 F
part 45 pins: 46 F
part 46 pins: 47 F
part 47 pins: 48 F
part 48 pins: 49 F
part 49 pins: 50 F
part 50 pins: 51 F
part 51 pins: 52 F
part 52 pins: 53 F
part 53 pins: 54 F
part 54 pins: 55 F
part 55 pins: 56 F
part 56 pins: 57 F
part 57 pins: 58 F
part 58 pins: 59 F
part 59 pins: 60 F
part 60 pins: 61 F
part 61 pins: 62 F
part 62 pins: 63 F
part 63 pins: 64 F
part 64 pins: 65 F
part 65 pins: 66 F
part 66 pins: 67 F
part 67 pins: 68 F
part 68 pins: 35 F

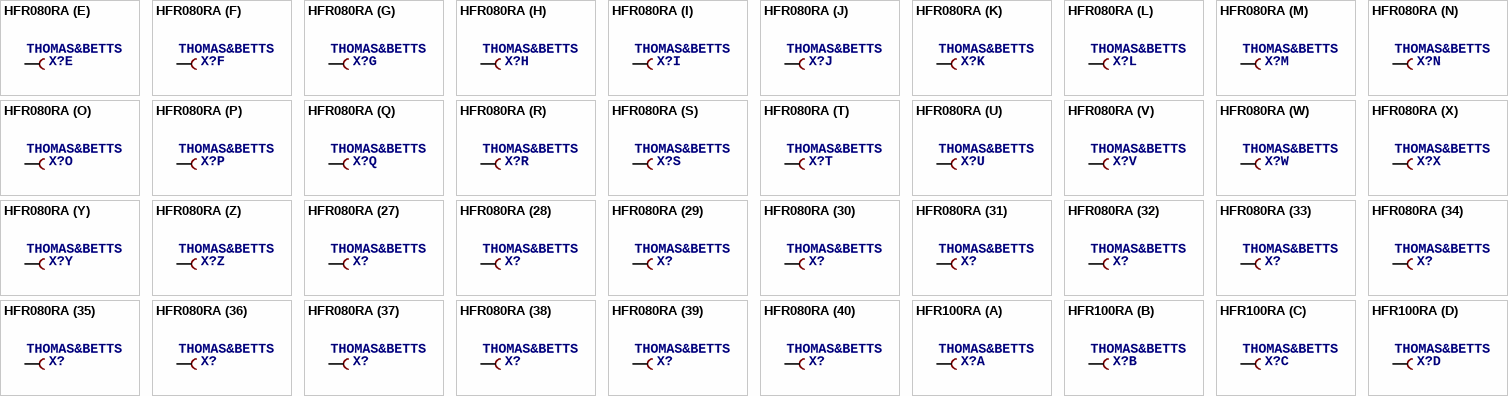
[diagram p19: symbols HFR080RA to HFR100RA]

## HFR080RA
designator X?, comment THOMAS&BETTS
OC_FARNELL: unknown; OC_NEWARK: unknown
footprint HFR080RA
part A pins: 1 F
part B pins: 2 F
part C pins: 3 F
part D pins: 4 F
part E pins: 5 F
part F pins: 6 F
part G pins: 7 F
part H pins: 8 F
part I pins: 9 F
part J pins: 10 F
part K pins: 11 F
part L pins: 12 F
part M pins: 13 F
part N pins: 14 F
part O pins: 15 F
part P pins: 16 F
part Q pins: 17 F
part R pins: 18 F
part S pins: 19 F
part T pins: 20 F
part U pins: 21 F
part V pins: 22 F
part W pins: 23 F
part X pins: 24 F
part Y pins: 25 F
part Z pins: 26 F
part 27 pins: 27 F
part 28 pins: 28 F
part 29 pins: 29 F
part 30 pins: 30 F
part 31 pins: 31 F
part 32 pins: 32 F
part 33 pins: 33 F
part 34 pins: 34 F
part 35 pins: 35 F
part 36 pins: 36 F
part 37 pins: 37 F
part 38 pins: 38 F
part 39 pins: 39 F
part 40 pins: 40 F
part 41 pins: 42 F
part 42 pins: 43 F
part 43 pins: 44 F
part 44 pins: 45 F
part 45 pins: 46 F
part 46 pins: 47 F
part 47 pins: 48 F
part 48 pins: 49 F
part 49 pins: 50 F
part 50 pins: 51 F
part 51 pins: 52 F
part 52 pins: 53 F
part 53 pins: 54 F
part 54 pins: 55 F
part 55 pins: 56 F
part 56 pins: 57 F
part 57 pins: 58 F
part 58 pins: 59 F
part 59 pins: 60 F
part 60 pins: 61 F
part 61 pins: 62 F
part 62 pins: 63 F
part 63 pins: 64 F
part 64 pins: 65 F
part 65 pins: 66 F
part 66 pins: 67 F
part 67 pins: 68 F
part 68 pins: 69 F
part 69 pins: 70 F
part 70 pins: 71 F
part 71 pins: 72 F
part 72 pins: 73 F
part 73 pins: 74 F
part 74 pins: 75 F
part 75 pins: 76 F
part 76 pins: 77 F
part 77 pins: 78 F
part 78 pins: 79 F
part 79 pins: 80 F
part 80 pins: 41 F

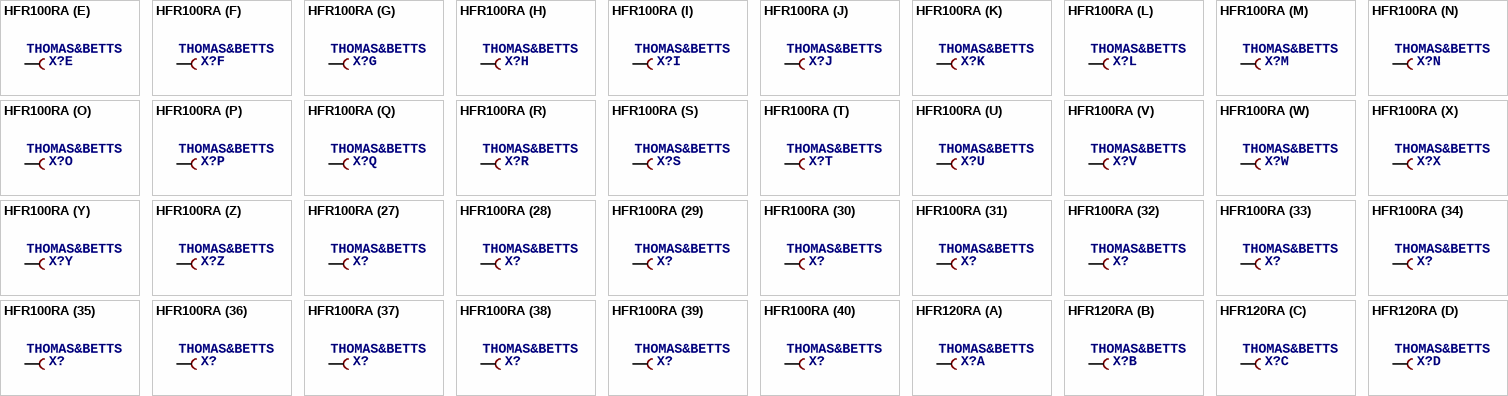
[diagram p20: symbols HFR100RA to HFR120RA]

## HFR100RA
designator X?, comment THOMAS&BETTS
MPN: HFR100RA29CX1; OC_FARNELL: unknown; OC_NEWARK: 92F1766
footprint HFR100RA
part A pins: 1 F
part B pins: 2 F
part C pins: 3 F
part D pins: 4 F
part E pins: 5 F
part F pins: 6 F
part G pins: 7 F
part H pins: 8 F
part I pins: 9 F
part J pins: 10 F
part K pins: 11 F
part L pins: 12 F
part M pins: 13 F
part N pins: 14 F
part O pins: 15 F
part P pins: 16 F
part Q pins: 17 F
part R pins: 18 F
part S pins: 19 F
part T pins: 20 F
part U pins: 21 F
part V pins: 22 F
part W pins: 23 F
part X pins: 24 F
part Y pins: 25 F
part Z pins: 27 F
part 27 pins: 28 F
part 28 pins: 29 F
part 29 pins: 30 F
part 30 pins: 31 F
part 31 pins: 32 F
part 32 pins: 33 F
part 33 pins: 34 F
part 34 pins: 35 F
part 35 pins: 36 F
part 36 pins: 37 F
part 37 pins: 38 F
part 38 pins: 39 F
part 39 pins: 40 F
part 40 pins: 41 F
part 41 pins: 42 F
part 42 pins: 43 F
part 43 pins: 44 F
part 44 pins: 45 F
part 45 pins: 46 F
part 46 pins: 47 F
part 47 pins: 48 F
part 48 pins: 49 F
part 49 pins: 50 F
part 50 pins: 52 F
part 51 pins: 53 F
part 52 pins: 54 F
part 53 pins: 55 F
part 54 pins: 56 F
part 55 pins: 57 F
part 56 pins: 58 F
part 57 pins: 59 F
part 58 pins: 60 F
part 59 pins: 61 F
part 60 pins: 62 F
part 61 pins: 63 F
part 62 pins: 64 F
part 63 pins: 65 F
part 64 pins: 66 F
part 65 pins: 67 F
part 66 pins: 68 F
part 67 pins: 69 F
part 68 pins: 70 F
part 69 pins: 71 F
part 70 pins: 72 F
part 71 pins: 73 F
part 72 pins: 74 F
part 73 pins: 75 F
part 74 pins: 77 F
part 75 pins: 78 F
part 76 pins: 79 F
part 77 pins: 80 F
part 78 pins: 81 F
part 79 pins: 82 F
part 80 pins: 83 F
part 81 pins: 84 F
part 82 pins: 85 F
part 83 pins: 86 F
part 84 pins: 87 F
part 85 pins: 88 F
part 86 pins: 89 F
part 87 pins: 90 F
part 88 pins: 91 F
part 89 pins: 92 F
part 90 pins: 93 F
part 91 pins: 94 F
part 92 pins: 95 F
part 93 pins: 96 F
part 94 pins: 97 F
part 95 pins: 98 F
part 96 pins: 99 F
part 97 pins: 100 F
part 98 pins: 26 F
part 99 pins: 51 F
part 100 pins: 76 F

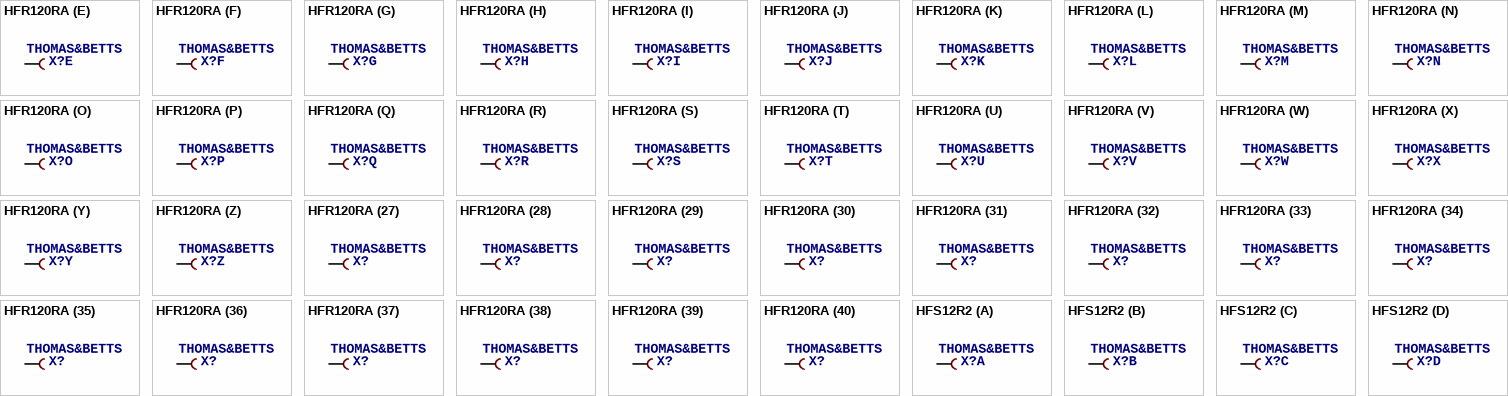
[diagram p21: symbols HFR120RA to HFS12R2]

## HFR120RA
designator X?, comment THOMAS&BETTS
OC_FARNELL: unknown; OC_NEWARK: unknown
footprint HFR120RA
part A pins: 1 F
part B pins: 2 F
part C pins: 3 F
part D pins: 4 F
part E pins: 5 F
part F pins: 6 F
part G pins: 7 F
part H pins: 8 F
part I pins: 9 F
part J pins: 10 F
part K pins: 11 F
part L pins: 12 F
part M pins: 13 F
part N pins: 14 F
part O pins: 15 F
part P pins: 16 F
part Q pins: 17 F
part R pins: 18 F
part S pins: 19 F
part T pins: 20 F
part U pins: 21 F
part V pins: 22 F
part W pins: 23 F
part X pins: 24 F
part Y pins: 25 F
part Z pins: 26 F
part 27 pins: 27 F
part 28 pins: 28 F
part 29 pins: 29 F
part 30 pins: 30 F
part 31 pins: 32 F
part 32 pins: 33 F
part 33 pins: 34 F
part 34 pins: 35 F
part 35 pins: 36 F
part 36 pins: 37 F
part 37 pins: 38 F
part 38 pins: 39 F
part 39 pins: 40 F
part 40 pins: 41 F
part 41 pins: 42 F
part 42 pins: 43 F
part 43 pins: 44 F
part 44 pins: 45 F
part 45 pins: 46 F
part 46 pins: 47 F
part 47 pins: 48 F
part 48 pins: 49 F
part 49 pins: 50 F
part 50 pins: 51 F
part 51 pins: 52 F
part 52 pins: 53 F
part 53 pins: 54 F
part 54 pins: 55 F
part 55 pins: 56 F
part 56 pins: 57 F
part 57 pins: 58 F
part 58 pins: 59 F
part 59 pins: 60 F
part 60 pins: 62 F
part 61 pins: 63 F
part 62 pins: 64 F
part 63 pins: 65 F
part 64 pins: 66 F
part 65 pins: 67 F
part 66 pins: 68 F
part 67 pins: 69 F
part 68 pins: 70 F
part 69 pins: 71 F
part 70 pins: 72 F
part 71 pins: 73 F
part 72 pins: 74 F
part 73 pins: 75 F
part 74 pins: 76 F
part 75 pins: 77 F
part 76 pins: 78 F
part 77 pins: 79 F
part 78 pins: 80 F
part 79 pins: 81 F
part 80 pins: 82 F
part 81 pins: 83 F
part 82 pins: 84 F
part 83 pins: 85 F
part 84 pins: 86 F
part 85 pins: 87 F
part 86 pins: 88 F
part 87 pins: 89 F
part 88 pins: 90 F
part 89 pins: 92 F
part 90 pins: 93 F
part 91 pins: 94 F
part 92 pins: 95 F
part 93 pins: 96 F
part 94 pins: 97 F
part 95 pins: 98 F
part 96 pins: 99 F
part 97 pins: 100 F
part 98 pins: 101 F
part 99 pins: 102 F
part 100 pins: 103 F
part 101 pins: 104 F
part 102 pins: 105 F
part 103 pins: 106 F
part 104 pins: 107 F
part 105 pins: 108 F
part 106 pins: 109 F
part 107 pins: 110 F
part 108 pins: 111 F
part 109 pins: 112 F
part 110 pins: 113 F
part 111 pins: 114 F
part 112 pins: 115 F
part 113 pins: 116 F
part 114 pins: 117 F
part 115 pins: 118 F
part 116 pins: 119 F
part 117 pins: 120 F
part 118 pins: 31 F
part 119 pins: 61 F
part 120 pins: 91 F

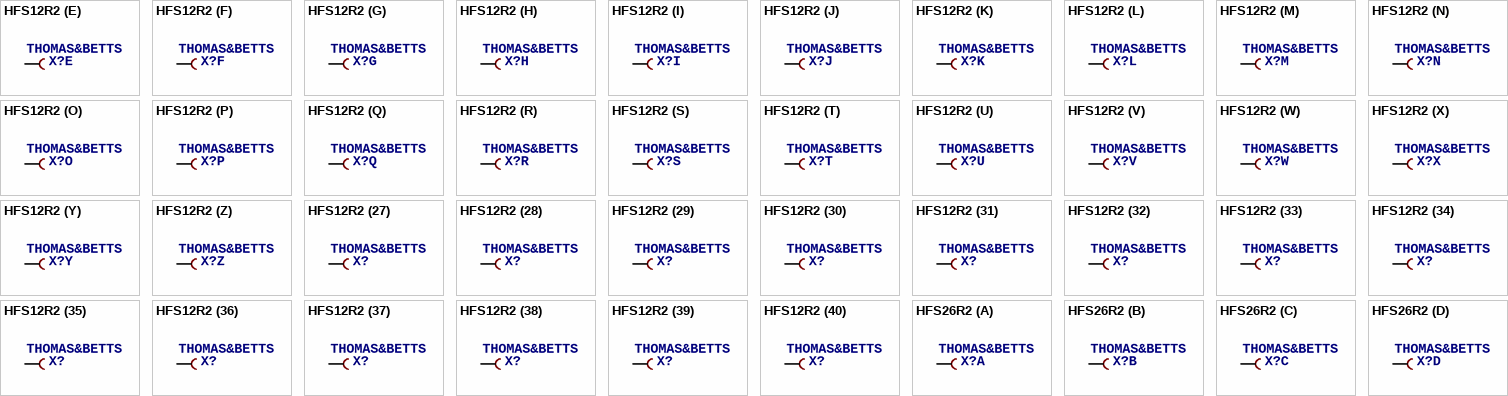
[diagram p22: symbols HFS12R2 to HFS26R2]

## HFS12R2
designator X?, comment THOMAS&BETTS
OC_FARNELL: unknown; OC_NEWARK: unknown
footprint HFS12R
part A pins: 1-1 F
part B pins: 1-2 F
part C pins: 1-3 F
part D pins: 1-4 F
part E pins: 1-5 F
part F pins: 1-6 F
part G pins: 1-7 F
part H pins: 1-8 F
part I pins: 1-9 F
part J pins: 1-10 F
part K pins: 1-11 F
part L pins: 1-12 F
part M pins: 1-13 F
part N pins: 1-14 F
part O pins: 1-15 F
part P pins: 1-16 F
part Q pins: 1-17 F
part R pins: 1-18 F
part S pins: 1-19 F
part T pins: 1-20 F
part U pins: 1-21 F
part V pins: 1-22 F
part W pins: 1-23 F
part X pins: 1-24 F
part Y pins: 1-25 F
part Z pins: 1-26 F
part 27 pins: 1-27 F
part 28 pins: 1-28 F
part 29 pins: 1-29 F
part 30 pins: 1-30 F
part 31 pins: 1-31 F
part 32 pins: 1-32 F
part 33 pins: 1-33 F
part 34 pins: 1-34 F
part 35 pins: 1-35 F
part 36 pins: 1-36 F
part 37 pins: 1-37 F
part 38 pins: 1-38 F
part 39 pins: 1-39 F
part 40 pins: 1-40 F
part 41 pins: 1-41 F
part 42 pins: 1-42 F
part 43 pins: 1-43 F
part 44 pins: 1-44 F
part 45 pins: 1-45 F
part 46 pins: 1-46 F
part 47 pins: 1-47 F
part 48 pins: 1-48 F
part 49 pins: 1-49 F
part 50 pins: 1-50 F
part 51 pins: 1-51 F
part 52 pins: 1-52 F
part 53 pins: 1-53 F
part 54 pins: 1-54 F
part 55 pins: 1-55 F
part 56 pins: 1-56 F
part 57 pins: 1-57 F
part 58 pins: 1-58 F
part 59 pins: 1-59 F
part 60 pins: 1-60 F
part 61 pins: 1-61 F
part 62 pins: 1-62 F
part 63 pins: 1-63 F
part 64 pins: 1-64 F
part 65 pins: 1-65 F
part 66 pins: 1-66 F
part 67 pins: 1-67 F
part 68 pins: 1-68 F
part 69 pins: 1-69 F
part 70 pins: 1-70 F
part 71 pins: 1-71 F
part 72 pins: 1-72 F
part 73 pins: 1-73 F
part 74 pins: 1-74 F
part 75 pins: 1-75 F
part 76 pins: 1-76 F
part 77 pins: 1-77 F
part 78 pins: 1-78 F
part 79 pins: 1-79 F
part 80 pins: 1-80 F
part 81 pins: 1-81 F
part 82 pins: 1-82 F
part 83 pins: 1-83 F
part 84 pins: 1-84 F
part 85 pins: 1-85 F
part 86 pins: 1-86 F
part 87 pins: 1-87 F
part 88 pins: 1-88 F
part 89 pins: 1-89 F
part 90 pins: 1-90 F
part 91 pins: 1-91 F
part 92 pins: 1-92 F
part 93 pins: 1-93 F
part 94 pins: 1-94 F
part 95 pins: 1-95 F
part 96 pins: 1-96 F
part 97 pins: 1-97 F
part 98 pins: 1-98 F
part 99 pins: 1-99 F
part 100 pins: 1-100 F
part 101 pins: 1-101 F
part 102 pins: 1-102 F
part 103 pins: 1-103 F
part 104 pins: 1-104 F
part 105 pins: 1-105 F
part 106 pins: 1-106 F
part 107 pins: 1-107 F
part 108 pins: 1-108 F
part 109 pins: 1-109 F
part 110 pins: 1-110 F
part 111 pins: 1-111 F
part 112 pins: 1-112 F
part 113 pins: 1-113 F
part 114 pins: 1-114 F
part 115 pins: 1-115 F
part 116 pins: 1-116 F
part 117 pins: 1-117 F
part 118 pins: 1-118 F
part 119 pins: 1-119 F
part 120 pins: 1-120 F
part 121 pins: 2-1 F
part 122 pins: 2-2 F
part 123 pins: 2-3 F
part 124 pins: 2-4 F
part 125 pins: 2-5 F
part 126 pins: 2-6 F
part 127 pins: 2-7 F
part 128 pins: 2-8 F
part 129 pins: 2-9 F
part 130 pins: 2-10 F
part 131 pins: 2-11 F
part 132 pins: 2-12 F
part 133 pins: 2-13 F
part 134 pins: 2-14 F
part 135 pins: 2-15 F
part 136 pins: 2-16 F
part 137 pins: 2-17 F
part 138 pins: 2-18 F
part 139 pins: 2-19 F
part 140 pins: 2-20 F
part 141 pins: 2-21 F
part 142 pins: 2-22 F
part 143 pins: 2-23 F
part 144 pins: 2-24 F
part 145 pins: 2-25 F
part 146 pins: 2-26 F
part 147 pins: 2-27 F
part 148 pins: 2-28 F
part 149 pins: 2-29 F
part 150 pins: 2-30 F
part 151 pins: 2-31 F
part 152 pins: 2-32 F
part 153 pins: 2-33 F
part 154 pins: 2-34 F
part 155 pins: 2-35 F
part 156 pins: 2-36 F
part 157 pins: 2-37 F
part 158 pins: 2-38 F
part 159 pins: 2-39 F
part 160 pins: 2-40 F
part 161 pins: 2-41 F
part 162 pins: 2-42 F
part 163 pins: 2-43 F
part 164 pins: 2-44 F
part 165 pins: 2-45 F
part 166 pins: 2-46 F
part 167 pins: 2-47 F
part 168 pins: 2-48 F
part 169 pins: 2-49 F
part 170 pins: 2-50 F
part 171 pins: 2-51 F
part 172 pins: 2-52 F
part 173 pins: 2-53 F
part 174 pins: 2-54 F
part 175 pins: 2-55 F
part 176 pins: 2-56 F
part 177 pins: 2-57 F
part 178 pins: 2-58 F
part 179 pins: 2-59 F
part 180 pins: 2-60 F
part 181 pins: 2-61 F
part 182 pins: 2-62 F
part 183 pins: 2-63 F
part 184 pins: 2-64 F
part 185 pins: 2-65 F
part 186 pins: 2-66 F
part 187 pins: 2-67 F
part 188 pins: 2-68 F
part 189 pins: 2-69 F
part 190 pins: 2-70 F
part 191 pins: 2-71 F
part 192 pins: 2-72 F
part 193 pins: 2-73 F
part 194 pins: 2-74 F
part 195 pins: 2-75 F
part 196 pins: 2-76 F
part 197 pins: 2-77 F
part 198 pins: 2-78 F
part 199 pins: 2-79 F
part 200 pins: 2-80 F
part 201 pins: 2-81 F
part 202 pins: 2-82 F
part 203 pins: 2-83 F
part 204 pins: 2-84 F
part 205 pins: 2-85 F
part 206 pins: 2-86 F
part 207 pins: 2-87 F
part 208 pins: 2-88 F
part 209 pins: 2-89 F
part 210 pins: 2-90 F
part 211 pins: 2-91 F
part 212 pins: 2-92 F
part 213 pins: 2-93 F
part 214 pins: 2-94 F
part 215 pins: 2-95 F
part 216 pins: 2-96 F
part 217 pins: 2-97 F
part 218 pins: 2-98 F
part 219 pins: 2-99 F
part 220 pins: 2-100 F
part 221 pins: 2-101 F
part 222 pins: 2-102 F
part 223 pins: 2-103 F
part 224 pins: 2-104 F
part 225 pins: 2-105 F
part 226 pins: 2-106 F
part 227 pins: 2-107 F
part 228 pins: 2-108 F
part 229 pins: 2-109 F
part 230 pins: 2-110 F
part 231 pins: 2-111 F
part 232 pins: 2-112 F
part 233 pins: 2-113 F
part 234 pins: 2-114 F
part 235 pins: 2-115 F
part 236 pins: 2-116 F
part 237 pins: 2-117 F
part 238 pins: 2-118 F
part 239 pins: 2-119 F
part 240 pins: 2-120 F